# Altium footprint library DPAK8P127_1435X464L198X76T508X508N.PcbLib: 1 footprints
Each footprint in its own frame and in the unit in brackets; x right, y up, seen from the top. Pads: shape width x height; smd on the part's side, far side on the other; paste and mask are expansions set on the pad; w line width, h text height; cw(c..) or ccw(c..) is an arc to the next point about the centre after c.
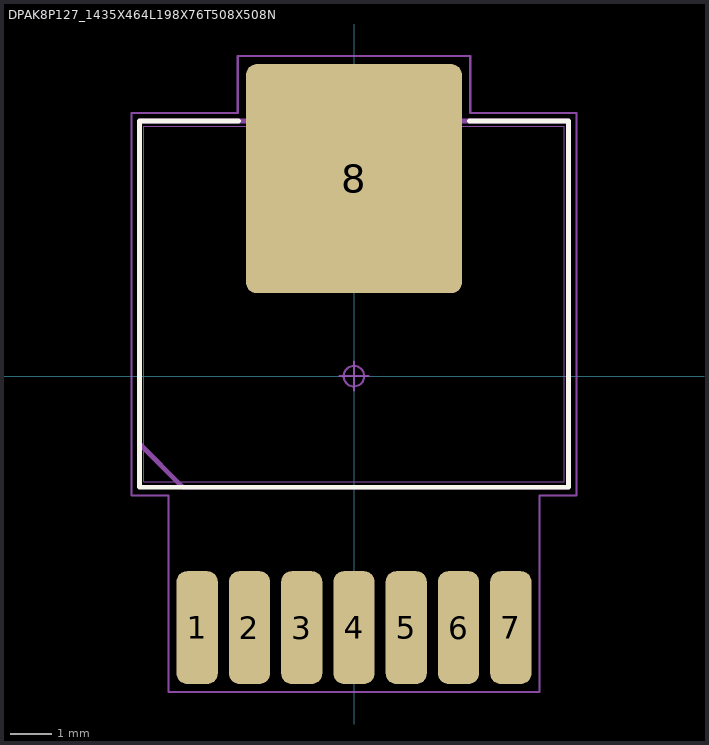
[diagram p0: the footprint, top view; thin cyan lines are the x and y axes]

## DPAK8P127_1435X464L198X76T508X508N [mm] "DPAK, 1.27 mm pitch; 7 pin, 8.64 mm L X 10.225 mm W X 4.64 mm H body"
height 4.64
pads (8):
  rrect50% 1x2.74 smd: 1(-3.81,-6.11) 2(-2.54,-6.11) 3(-1.27,-6.11) 4(0,-6.11) 5(1.27,-6.11) 6(2.54,-6.11) 7(3.81,-6.11)
  rrect10% 5.25x5.57 smd paste-5.57: 8(0,4.8)
Top Overlay:
  lines w0.12: -2.805,6.2 -5.21,6.2 -5.21,-2.7 5.21,-2.7 5.21,6.2 2.805,6.2
Top Paste:
  region: 2.22,2.295 0.41,2.295 0.41,3.605 2.22,3.605
  region: 2.22,4.145 0.41,4.145 0.41,5.455 2.22,5.455
  region: 2.22,5.995 0.41,5.995 0.41,7.305 2.22,7.305
  region: -0.41,2.295 -2.22,2.295 -2.22,3.605 -0.41,3.605
  region: -0.41,4.145 -2.22,4.145 -2.22,5.455 -0.41,5.455
  region: -0.41,5.995 -2.22,5.995 -2.22,7.305 -0.41,7.305
Mechanical 3:
  lines w0.12: -5.21,-1.648 -5.21,6.2 5.21,6.2 5.21,-2.7 -4.158,-2.7 -5.21,-1.648
Mechanical 5:
  lines w0.025: -5.112,-2.57 -5.112,6.07 5.112,6.07 5.112,-2.57 -5.112,-2.57 ; -4.19,-7.175 -3.43,-7.175 -3.43,-5.195 -4.19,-5.195 -4.19,-7.175 ; -2.92,-7.175 -2.16,-7.175 -2.16,-5.195 -2.92,-5.195 -2.92,-7.175 ; -2.54,2.095 2.54,2.095 2.54,7.175 -2.54,7.175 -2.54,2.095 ; -1.65,-7.175 -0.89,-7.175 -0.89,-5.195 -1.65,-5.195 -1.65,-7.175 ; -0.38,-7.175 0.38,-7.175 0.38,-5.195 -0.38,-5.195 -0.38,-7.175 ; 0.89,-7.175 1.65,-7.175 1.65,-5.195 0.89,-5.195 0.89,-7.175 ; 2.16,-7.175 2.92,-7.175 2.92,-5.195 2.16,-5.195 2.16,-7.175 ; 3.43,-7.175 4.19,-7.175 4.19,-5.195 3.43,-5.195 3.43,-7.175
Mechanical 7:
  circle w0.05: c0,0 r0.25
  lines w0.05: -0.35,0 0.35,0 ; 0,-0.35 0,0.35 ; -5.41,-2.9 -5.41,6.4 -2.825,6.4 -2.825,7.785 2.825,7.785 2.825,6.4 5.41,6.4 5.41,-2.9 4.51,-2.9 4.51,-7.68 -4.51,-7.68 -4.51,-2.9 -5.41,-2.9
Mechanical 9:
  text "'.Designator'" at -5.817,-0.906 h1.02
3D body "DPAK8P127_1435X464L198X76T508X508.STEP": height 4.64, standoff 0, extent -5.112,-7.175 5.112,7.175
3D body: height 1.04, standoff 0, extent -5.41,-7.68 5.41,7.785